# EAGLE library part WT32-ETH01 (library UNIT_Biblioteca_Modulos)
WT32-ETH01 Datasheet: SKU: Propietario: UNIT Electronics Desarrollador: Alberto Villanueva
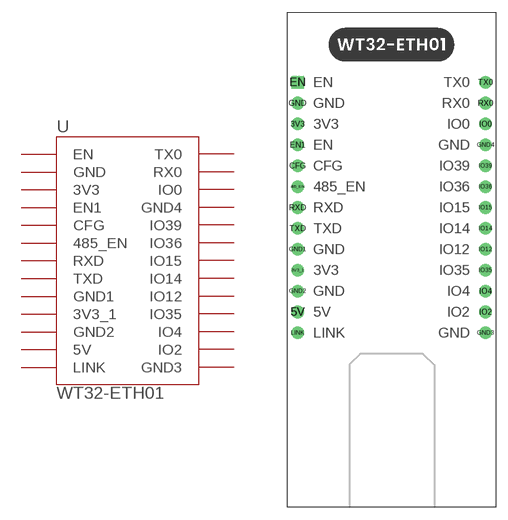
[diagram p32: symbol with the pads of WT32-ETH01; footprint WT32-ETH01]

Designator prefix U

## WT32-ETH01 (CLASS: Modules; DESCRIPTION: WT32-ETH01; VENDOR_PART_NUMBER: AR3833; VENDOR_PRICE-STOCK: https://uelectronics.com/producto/wt32-eth01-placa-de-desarrollo-esp32-con-ethernet/?srsltid=AfmBOopftLFLgTsnEXiFDd33xAwvPDE8N3Bs3fCO5XScJWa1n6ew5ccZ)  [WT32-ETH01]
3V3  3V3
3V3_1  3V3_1
5V  5V
485_EN  485_EN
CFG  CFG
EN  EN
EN1  EN1
GND  GND
GND1  GND1
GND2  GND2
GND3  GND3
GND4  GND4
IO0  IO0
IO2  IO2
IO4  IO4
IO12  IO12
IO14  IO14
IO15  IO15
IO35  IO35
IO36  IO36
IO39  IO39
LINK  LINK
RX0  RX0
RXD  RXD
TX0  TX0
TXD  TXD

## Footprint WT32-ETH01 (pad centres in mm)
drill 1.02: 3V3 -11.43,10.16; 3V3_1 -11.43,-7.62; 5V -11.43,-12.7; 485_EN -11.43,2.54; CFG -11.43,5.08; EN1 -11.43,7.62; GND -11.43,12.7; GND1 -11.43,-5.08; GND2 -11.43,-10.16; GND3 11.43,-15.24; GND4 11.43,7.62; IO0 11.43,10.16; IO2 11.43,-12.7; IO4 11.43,-10.16; IO12 11.43,-5.08; IO14 11.43,-2.54; IO15 11.43,0; IO35 11.43,-7.62; IO36 11.43,2.54; IO39 11.43,5.08; LINK -11.43,-15.24; RX0 11.43,12.7; RXD -11.43,0; TX0 11.43,15.24; TXD -11.43,-2.54
drill 1.02 square: EN -11.43,15.24